# Altium schematic symbol library unicore.SchLib: 1 symbol
Pins are listed as number, name and electrical type; pins without a type are passive.

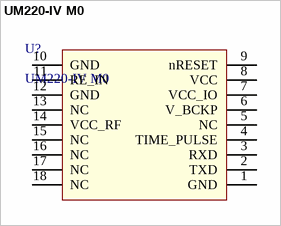
[diagram p0: symbol UM220-IV M0]

## UM220-IV M0
designator U?
工规级多系统GNSS导航定位模组; Revised By: Z_xiao
footprint UM220-IV-M0
pins: 1 GND, 2 TXD, 3 RXD, 4 TIME_PULSE, 5 NC, 6 V_BCKP, 7 VCC_IO, 8 VCC, 9 nRESET, 10 GND, 11 RE_IN, 12 GND, 13 NC, 14 VCC_RF, 15 NC, 16 NC, 17 NC, 18 NC